# EAGLE library part M20-9981045 (library KVB-connectors)
20 Positions Header Unshrouded Breakaway Connector 0.100" (2.54mm) Through Hole Gold
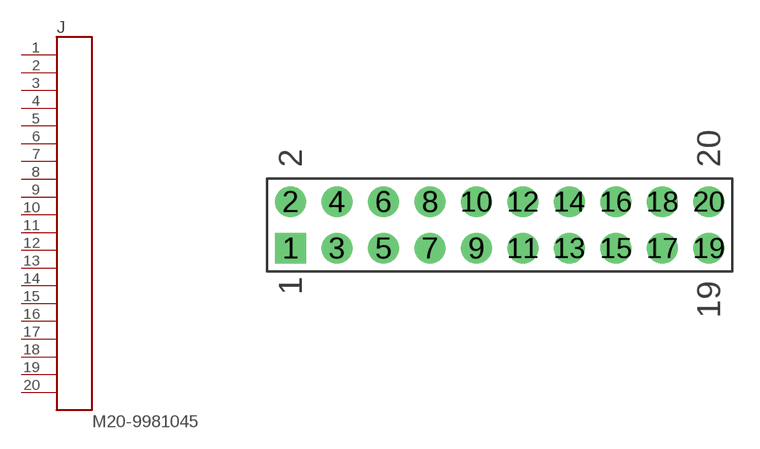
[diagram p1: symbol with the pads of M20-9981045; footprint M20-9981045]

Designator prefix J

## M20-9981045 (MAN-PART_NUM: M20-9981045; MANUFACTURER: Harwin)  [M20-9981045]
1  P$1
2  P$2
3  P$3
4  P$4
5  P$5
6  P$6
7  P$7
8  P$8
9  P$9
10  P$10
11  P$11
12  P$12
13  P$13
14  P$14
15  P$15
16  P$16
17  P$17
18  P$18
19  P$19
20  P$20

## Footprint M20-9981045 (pad centres in mm)
drill 1.016 pad 1.676 square: 1 -11.43,-1.27
drill 1.016 pad 1.676: 2 -11.43,1.27; 3 -8.89,-1.27; 4 -8.89,1.27; 5 -6.35,-1.27; 6 -6.35,1.27; 7 -3.81,-1.27; 8 -3.81,1.27; 9 -1.27,-1.27; 10 -1.27,1.27; 11 1.27,-1.27; 12 1.27,1.27; 13 3.81,-1.27; 14 3.81,1.27; 15 6.35,-1.27; 16 6.35,1.27; 17 8.89,-1.27; 18 8.89,1.27; 19 11.43,-1.27; 20 11.43,1.27